# Altium schematic symbol library CDBC5200-HF.SchLib: 1 symbol
Pins are listed as number, name and electrical type; pins without a type are passive.

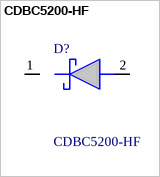
[diagram p0: symbol CDBC5200-HF]

## CDBC5200-HF
designator D?
Diode 200 V 5A Surface Mount DO-214AB (SMC); Manufacturer_Name: Comchip Technology; Geometry.Height: 2.9mm; Mouser Part Number: 750-CDBC5200-HF; Mouser Price/Stock: https://www.mouser.co.uk/ProductDetail/Comchip-Technology/CDBC5200-HF?qs=XEIV%2Fho1H6e7FEPE4wQmfQ%3D%3D; Manufacturer_Part_Number: CDBC5200-HF; Datasheet Link: https://www.comchiptech.com/admin/files/product/CDBC5150-HF%20Thru913202.%20CDBC5200-HF%20RevB.pdf
footprint DIOM8059X290N
pins: 1 K, 2 A